# EAGLE library part RJ-45 (library PAS)
RJ-45 with colors and pin numbers
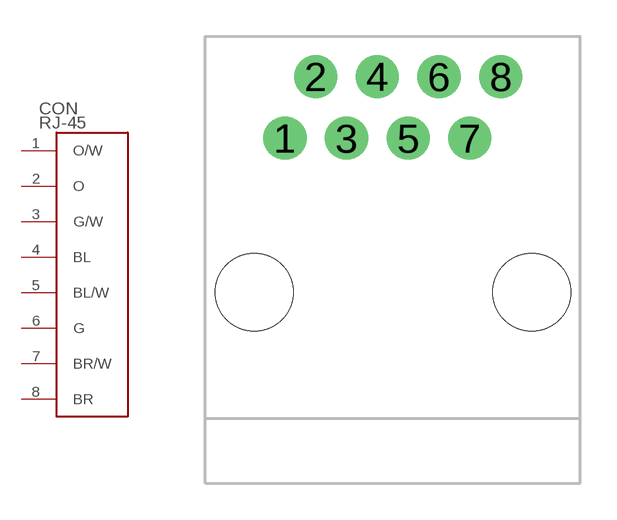
[diagram p14: symbol with the pads of RJ-45; footprint RJ-45]

Designator prefix CON

## RJ-45  [RJ-45]
1  O/W  pas
2  O  pas
3  G/W  pas
4  BL  pas
5  BL/W  pas
6  G  pas
7  BR/W  pas
8  BR  pas

## Footprint RJ-45 (pad centres in mm)
Tyco through hole RJ-45
drill 0.9 pad 1.778 round: 1 -4.445,14.22; 2 -3.175,16.76; 3 -1.905,14.22; 4 -0.635,16.76; 5 0.635,14.22; 6 1.905,16.76; 7 3.175,14.22; 8 4.445,16.76
hole 3.2 at 5.715,7.87
hole 3.2 at -5.715,7.87